# Altium footprint library Copal.PcbLib: 1 footprints
Each footprint in its own frame and in the unit in brackets; x right, y up, seen from the top. Pads: shape width x height; smd on the part's side, far side on the other; paste and mask are expansions set on the pad; w line width, h text height; cw(c..) or ccw(c..) is an arc to the next point about the centre after c.
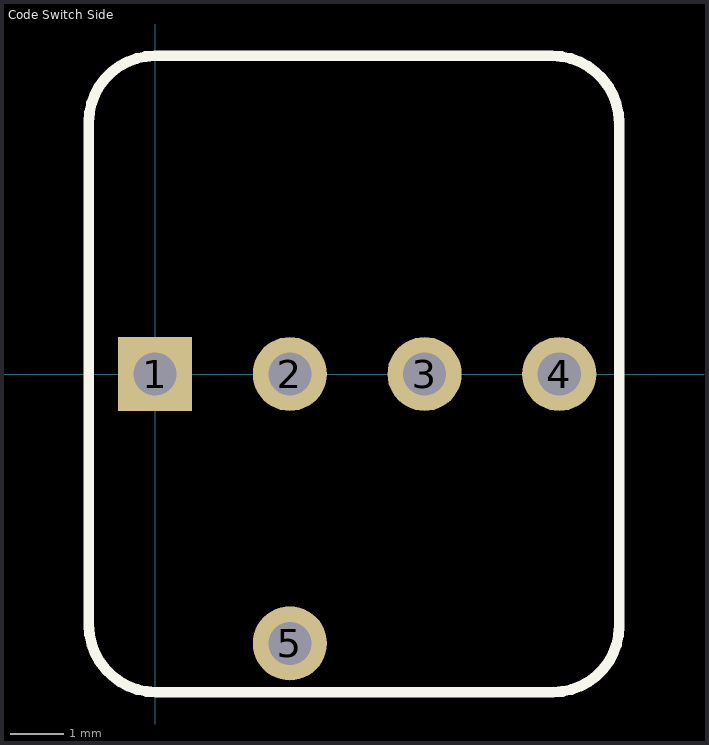
[diagram p0: the footprint, top view; thin cyan lines are the x and y axes]

## Code Switch Side [mil] "Hexadecimal Code Switch, 4 Channels, right angled"
pads (5):
  rect 55x55 hole 32: 1(0,0)
  round 55 hole 32: 2(100,0) 3(200,0) 4(300,0) 5(100,-200)
Top Overlay:
  lines w7.87: -49.21,-186.22 ccw(c0.79,-186.22) 0.79,-236.22 295.28,-236.22 ccw(c295.28,-187.01) 344.49,-187.01 344.49,0 344.49,186.22 ccw(c294.49,186.22) 294.49,236.22 0,236.22 ccw(c0,187.01) -49.21,187.01 -49.21,-186.22
3D body "S-1011A_2_14.stp": height 394.18, standoff -137.31, extent -46.85,-216.76 346.85,236